# EAGLE library part AMC1200 (library custom)
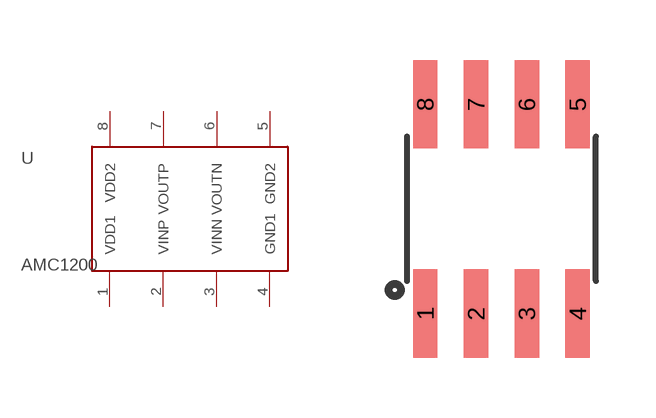
[diagram p3: symbol with the pads of SOIC8; footprint SOIC8]

Designator prefix -

## AMC1200  [SOIC8]
1  VDD1
2  VINP
3  VINN
4  GND1
5  GND2
6  VOUTN
7  VOUTP
8  VDD2

## Footprint SOIC8 (pad centres in mm)
smd 0.61 x 2.21: 1 -1.905,-2.616; 2 -0.635,-2.616; 3 0.635,-2.616; 4 1.905,-2.616; 5 1.905,2.616; 6 0.635,2.616; 7 -0.635,2.616; 8 -1.905,2.616